# Altium schematic symbol library Jumper.SchLib: 12 symbols
Pins are listed as number, name and electrical type; pins without a type are passive.

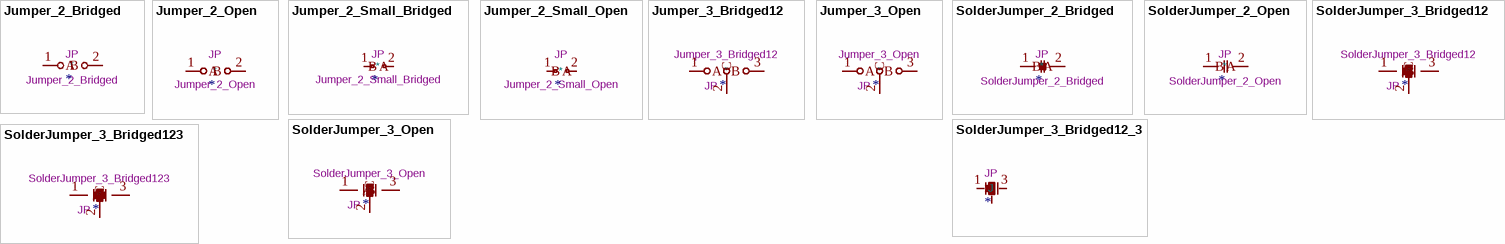
[diagram p0: symbols Jumper_2_Bridged to SolderJumper_3_Open]

## Jumper_2_Bridged
designator *  value Jumper_2_Bridged  Reference: JP
Jumper, 2-pole, closed/bridged; ki_keywords: Jumper SPST; ki_fp_filters: Jumper* TestPoint*2Pads* TestPoint*Bridge*; Datasheet: ~; Description_: Jumper, 2-pole, closed/bridged
pins: 1 A, 2 B

## Jumper_2_Open
designator *  value Jumper_2_Open  Reference: JP
Jumper, 2-pole, open; ki_keywords: Jumper SPST; ki_fp_filters: Jumper* TestPoint*2Pads* TestPoint*Bridge*; Datasheet: ~; Description_: Jumper, 2-pole, open
pins: 1 A, 2 B

## Jumper_2_Small_Bridged
designator *  value Jumper_2_Small_Bridged  Reference: JP
Jumper, 2-pole, small symbol, bridged; ki_keywords: Jumper SPST; ki_fp_filters: Jumper* TestPoint*2Pads* TestPoint*Bridge*; Datasheet: ~; Description_: Jumper, 2-pole, small symbol, bridged
pins: 1 A, 2 B

## Jumper_2_Small_Open
designator *  value Jumper_2_Small_Open  Reference: JP
Jumper, 2-pole, small symbol, open; ki_keywords: Jumper SPST; ki_fp_filters: Jumper* TestPoint*2Pads* TestPoint*Bridge*; Datasheet: ~; Description_: Jumper, 2-pole, small symbol, open
pins: 1 A, 2 B

## Jumper_3_Bridged12
designator *  value Jumper_3_Bridged12  Reference: JP
Jumper, 3-pole, pins 1+2 closed/bridged; ki_keywords: Jumper SPDT; ki_fp_filters: Jumper* TestPoint*3Pads* TestPoint*Bridge*; Datasheet: ~; Description_: Jumper, 3-pole, pins 1+2 closed/bridged
pins: 1 A, 2 C, 3 B

## Jumper_3_Open
designator *  value Jumper_3_Open  Reference: JP
Jumper, 3-pole, both open; ki_keywords: Jumper SPDT; ki_fp_filters: Jumper* TestPoint*3Pads* TestPoint*Bridge*; Datasheet: ~; Description_: Jumper, 3-pole, both open
pins: 1 A, 2 C, 3 B

## SolderJumper_2_Bridged
designator *  value SolderJumper_2_Bridged  Reference: JP
Solder Jumper, 2-pole, closed/bridged; ki_keywords: solder jumper SPST; ki_fp_filters: SolderJumper*Bridged*; Datasheet: ~; Description_: Solder Jumper, 2-pole, closed/bridged
pins: 1 A, 2 B

## SolderJumper_2_Open
designator *  value SolderJumper_2_Open  Reference: JP
Solder Jumper, 2-pole, open; ki_keywords: solder jumper SPST; ki_fp_filters: SolderJumper*Open*; Datasheet: ~; Description_: Solder Jumper, 2-pole, open
pins: 1 A, 2 B

## SolderJumper_3_Bridged12
designator *  value SolderJumper_3_Bridged12  Reference: JP
3-pole Solder Jumper, pins 1+2 closed/bridged; ki_keywords: Solder Jumper SPDT; ki_fp_filters: SolderJumper*Bridged12*; Datasheet: ~; Description_: 3-pole Solder Jumper, pins 1+2 closed/bridged
pins: 1 A, 2 C, 3 B

## SolderJumper_3_Bridged12_3
designator J  Reference: JP
3-pole Solder Jumper, pins 1+2 closed/bridged; ki_keywords: Solder Jumper SPDT; ki_fp_filters: SolderJumper*Bridged12*; Value: SolderJumper_3_Bridged12; Datasheet: ~; Description_: 3-pole Solder Jumper, pins 1+2 closed/bridged
footprint J_0402_1005Metric (R_0402_1005Metric)
footprint J_0603_1608Metric (R_0603_1608Metric)
footprint J_0202 (R_0402_1005Metric)
pins: 1 A, 2 C, 3 B

## SolderJumper_3_Bridged123
designator *  value SolderJumper_3_Bridged123  Reference: JP
Solder Jumper, 3-pole, pins 1+2+3 closed/bridged; ki_keywords: Solder Jumper SPDT; ki_fp_filters: SolderJumper*Bridged123*; Datasheet: ~; Description_: Solder Jumper, 3-pole, pins 1+2+3 closed/bridged
pins: 1 A, 2 C, 3 B

## SolderJumper_3_Open
designator *  value SolderJumper_3_Open  Reference: JP
Solder Jumper, 3-pole, open; ki_keywords: Solder Jumper SPDT; ki_fp_filters: SolderJumper*Open*; Datasheet: ~; Description_: Solder Jumper, 3-pole, open
pins: 1 A, 2 C, 3 B